# Altium schematic symbol library AnalogSensor.SchLib: 1 symbol
Pins are listed as number, name and electrical type; pins without a type are passive.

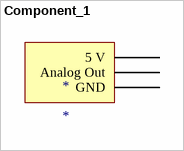
[diagram p0: symbol Component_1]

## Component_1
designator *
pins: 1 5 V, 2 Analog Out, 3 GND